# Altium schematic symbol library IC_Device.SchLib: 4 symbols
Pins are listed as number, name and electrical type; pins without a type are passive.

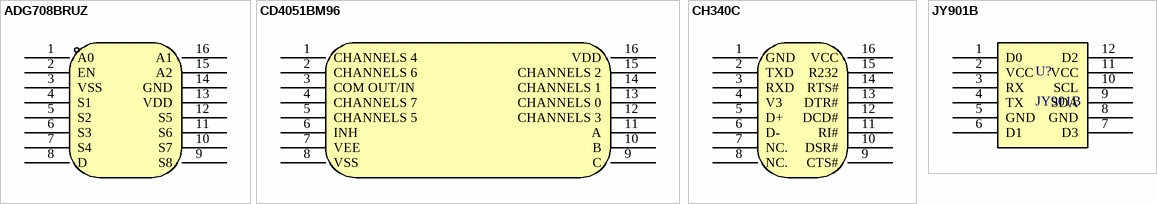
[diagram p0: symbols ADG708BRUZ to JY901B]

## ADG708BRUZ
designator U??  (value not drawn)
低电压8通道多路复用器; Manufacturer: ADI(亚德诺)/LINEAR(凌特); Symbol: ADG708BRUZ_C579091; Add into BOM: yes; Name: ADG708BRUZ; Device: ADG708BRUZ; LCSC Part Name: ADG708BRUZ; Supplier Part: C579091; Manufacturer Part: ADG708BRUZ; Supplier Footprint: TSSOP-16; JLCPCB Part Class: Extended Part; Datasheet: https://atta.szlcsc.com/upload/public/pdf/source/20180613/C206785_93B0E46C728EF6F994EE56115A1D5409.pdf; Supplier: LCSC; Convert to PCB: yes
footprint TSSOP-16_L5.0-W4.4-P0.65-LS6.4-BL
3D model TSSOP-16_L5.0-W4.4-H1.0-LS6.4-P0.65
pins: 1 A0, 2 EN, 3 VSS, 4 S1, 5 S2, 6 S3, 7 S4, 8 D, 9 S8, 10 S7, 11 S6, 12 S5, 13 VDD, 14 GND, 15 A2, 16 A1

## CD4051BM96
designator U??  (value not drawn)
Manufacturer: TI(德州仪器); Add into BOM: yes; Name: CD4051BM96; Symbol: CD4051BM96; Device: CD4051BM96; LCSC Part Name: 具有逻辑电平转换功能的 CMOS 单路8通道模拟多路复用器或多路信号分离器; Supplier Part: C21379; Manufacturer Part: CD4051BM96; Supplier Footprint: SOIC-16-150mil; JLCPCB Part Class: Basic Part; Datasheet: https://atta.szlcsc.com/upload/public/pdf/source/20170221/1487670303905.pdf; Supplier: LCSC; Convert to PCB: yes
footprint SOIC-16_L9.9-W3.9-P1.27-LS6.0-BL
3D model SOIC-16_L9.9-W3.9-H1.8-LS6.0-P1.27
pins: 1 CHANNELS 4, 2 CHANNELS 6, 3 COM OUT/IN, 4 CHANNELS 7, 5 CHANNELS 5, 6 INH, 7 VEE, 8 VSS, 9 C, 10 B, 11 A, 12 CHANNELS 3, 13 CHANNELS 0, 14 CHANNELS 1, 15 CHANNELS 2, 16 VDD

## CH340C
designator U??  (value not drawn)
Manufacturer: WCH(南京沁恒); Add into BOM: yes; Applications Function: Transceiver; Protocol: USB 2.0; Data Rate: 2Mbps; Supply Voltage: 3.3V；5V; Name: CH340C; Symbol: CH340C; Device: CH340C; LCSC Part Name: CH340C; Supplier Part: C84681; Manufacturer Part: CH340C; Supplier Footprint: SOP-16; JLCPCB Part Class: Extended Part; Datasheet: https://atta.szlcsc.com/upload/public/pdf/source/20200819/C84681_ADBED554CE321879DBD6B1D06488689C.pdf; Supplier: LCSC; Convert to PCB: yes
footprint SOP-16_L10.0-W3.9-P1.27-LS6.0-BL
3D model SOP-16_L9.9-W3.9-H1.5-LS6.0-P1.27
pins: 1 GND, 2 TXD, 3 RXD, 4 V3, 5 D+, 6 D-, 7 NC., 8 NC., 9 CTS#, 10 DSR#, 11 RI#, 12 DCD#, 13 DTR#, 14 RTS#, 15 R232, 16 VCC

## JY901B
designator U?
Ten axis inertial sensor
pins: 1 D0, 2 VCC, 3 RX, 4 TX, 5 GND, 6 D1, 7 D3, 8 GND, 9 SDA, 10 SCL, 11 VCC, 12 D2